# EAGLE library part R-ARRAY-4_ (library R-ARRAY)
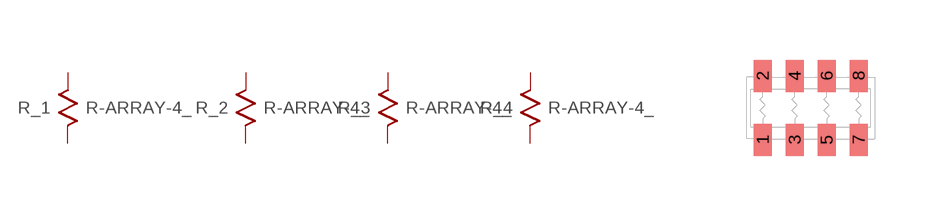
[diagram p0: symbol with the pads of CAT16-J4; footprint CAT16-J4]

Designator prefix R; gates _1=R _2=R _3=R _4=R

## R-ARRAY-4_CAT16-J4  [CAT16-J4]
1  _1:1  pas
2  _1:2  pas
3  _2:1  pas
4  _2:2  pas
5  _3:1  pas
6  _3:2  pas
7  _4:1  pas
8  _4:2  pas

## Footprint CAT16-J4 (pad centres in mm)
smd 0.45 x 0.8: 1 -1.2,-0.8; 2 -1.2,0.8; 3 -0.4,-0.8; 4 -0.4,0.8; 5 0.4,-0.8; 6 0.4,0.8; 7 1.2,-0.8; 8 1.2,0.8